# EAGLE library part LTC6102 (library linear-technology)
Current Sense Amplifier Precision Zero Drift
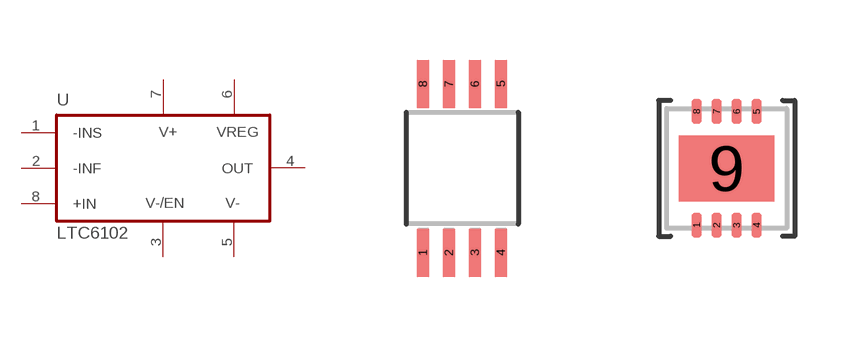
[diagram p42: symbol with the pads of MSOP08; footprints MSOP08, DFN8-3X3]

Designator prefix U

## LTC6102MS8 (P1I: o)  [MSOP08]
1  -INS  in
2  -INF  in
3  V-/EN  in
4  OUT  out
5  V-  pwr
6  VREG  out
7  V+  pwr
8  +IN  in

## LTC6102DD (P1I: o)  [DFN8-3X3]
Pads as for MSOP08

## Footprint MSOP08 (pad centres in mm)
Mini Small Outline Package
smd 0.3 x 1.2: 1 -0.976,-2.113; 2 -0.326,-2.113; 3 0.324,-2.113; 4 0.974,-2.113; 5 0.974,2.112; 6 0.324,2.112; 7 -0.326,2.112; 8 -0.976,2.112

## Footprint DFN8-3X3 (pad centres in mm)
DFN-8 3x3mm body
smd 0.25 x 0.6: 1 -0.75,-1.425; 2 -0.25,-1.425; 3 0.25,-1.425; 4 0.75,-1.425; 5 0.75,1.425; 6 0.25,1.425; 7 -0.25,1.425; 8 -0.75,1.425
smd 2.38 x 1.65: 9 0,0